# EAGLE library part MOLEX-0.5-B2B(0529910308) (library Traficon)
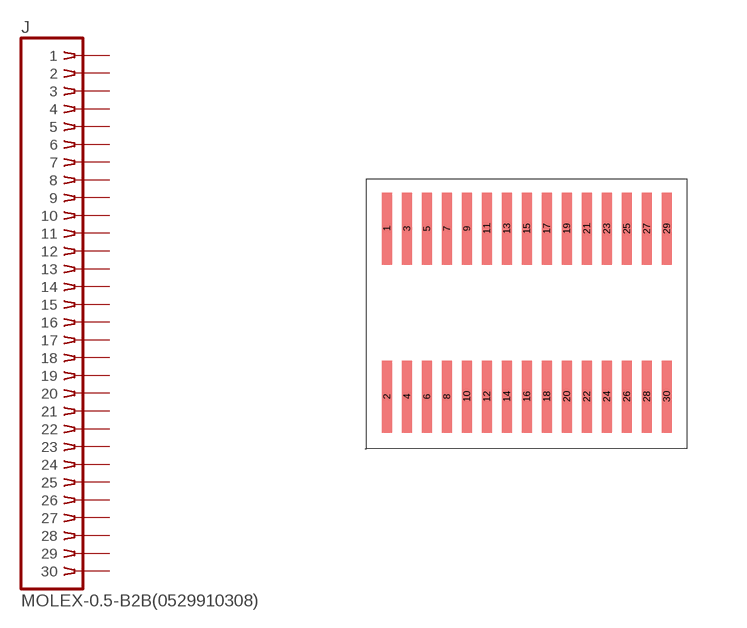
[diagram p76: symbol with the pads of MOLEX-0.5-B2B(0529910308); footprint MOLEX-0.5-B2B(0529910308)]

Designator prefix J

## MOLEX-0.5-B2B(0529910308)  [MOLEX-0.5-B2B(0529910308)]
1  1  pas
2  2  pas
3  3  pas
4  4  pas
5  5  pas
6  6  pas
7  7  pas
8  8  pas
9  9  pas
10  10  pas
11  11  pas
12  12  pas
13  13  pas
14  14  pas
15  15  pas
16  16  pas
17  17  pas
18  18  pas
19  19  pas
20  20  pas
21  21  pas
22  22  pas
23  23  pas
24  24  pas
25  25  pas
26  26  pas
27  27  pas
28  28  pas
29  29  pas
30  30  pas

## Footprint MOLEX-0.5-B2B(0529910308) (pad centres in mm)
smd 0.25 x 1.8: 1 -3.5,2; 2 -3.5,-2.2; 3 -3,2; 4 -3,-2.2; 5 -2.5,2; 6 -2.5,-2.2; 7 -2,2; 8 -2,-2.2; 9 -1.5,2; 10 -1.5,-2.2; 11 -1,2; 12 -1,-2.2; 13 -0.5,2; 14 -0.5,-2.2; 15 0,2; 16 0,-2.2; 17 0.5,2; 18 0.5,-2.2; 19 1,2; 20 1,-2.2; 21 1.5,2; 22 1.5,-2.2; 23 2,2; 24 2,-2.2; 25 2.5,2; 26 2.5,-2.2; 27 3,2; 28 3,-2.2; 29 3.5,2; 30 3.5,-2.2